# Altium footprint library SOIC.PcbLib: 46 footprints (part 2 of 3)
Each footprint in its own frame and in the unit in brackets; x right, y up, seen from the top. Pads: shape width x height; smd on the part's side, far side on the other; paste and mask are expansions set on the pad; w line width, h text height; cw(c..) or ccw(c..) is an arc to the next point about the centre after c.
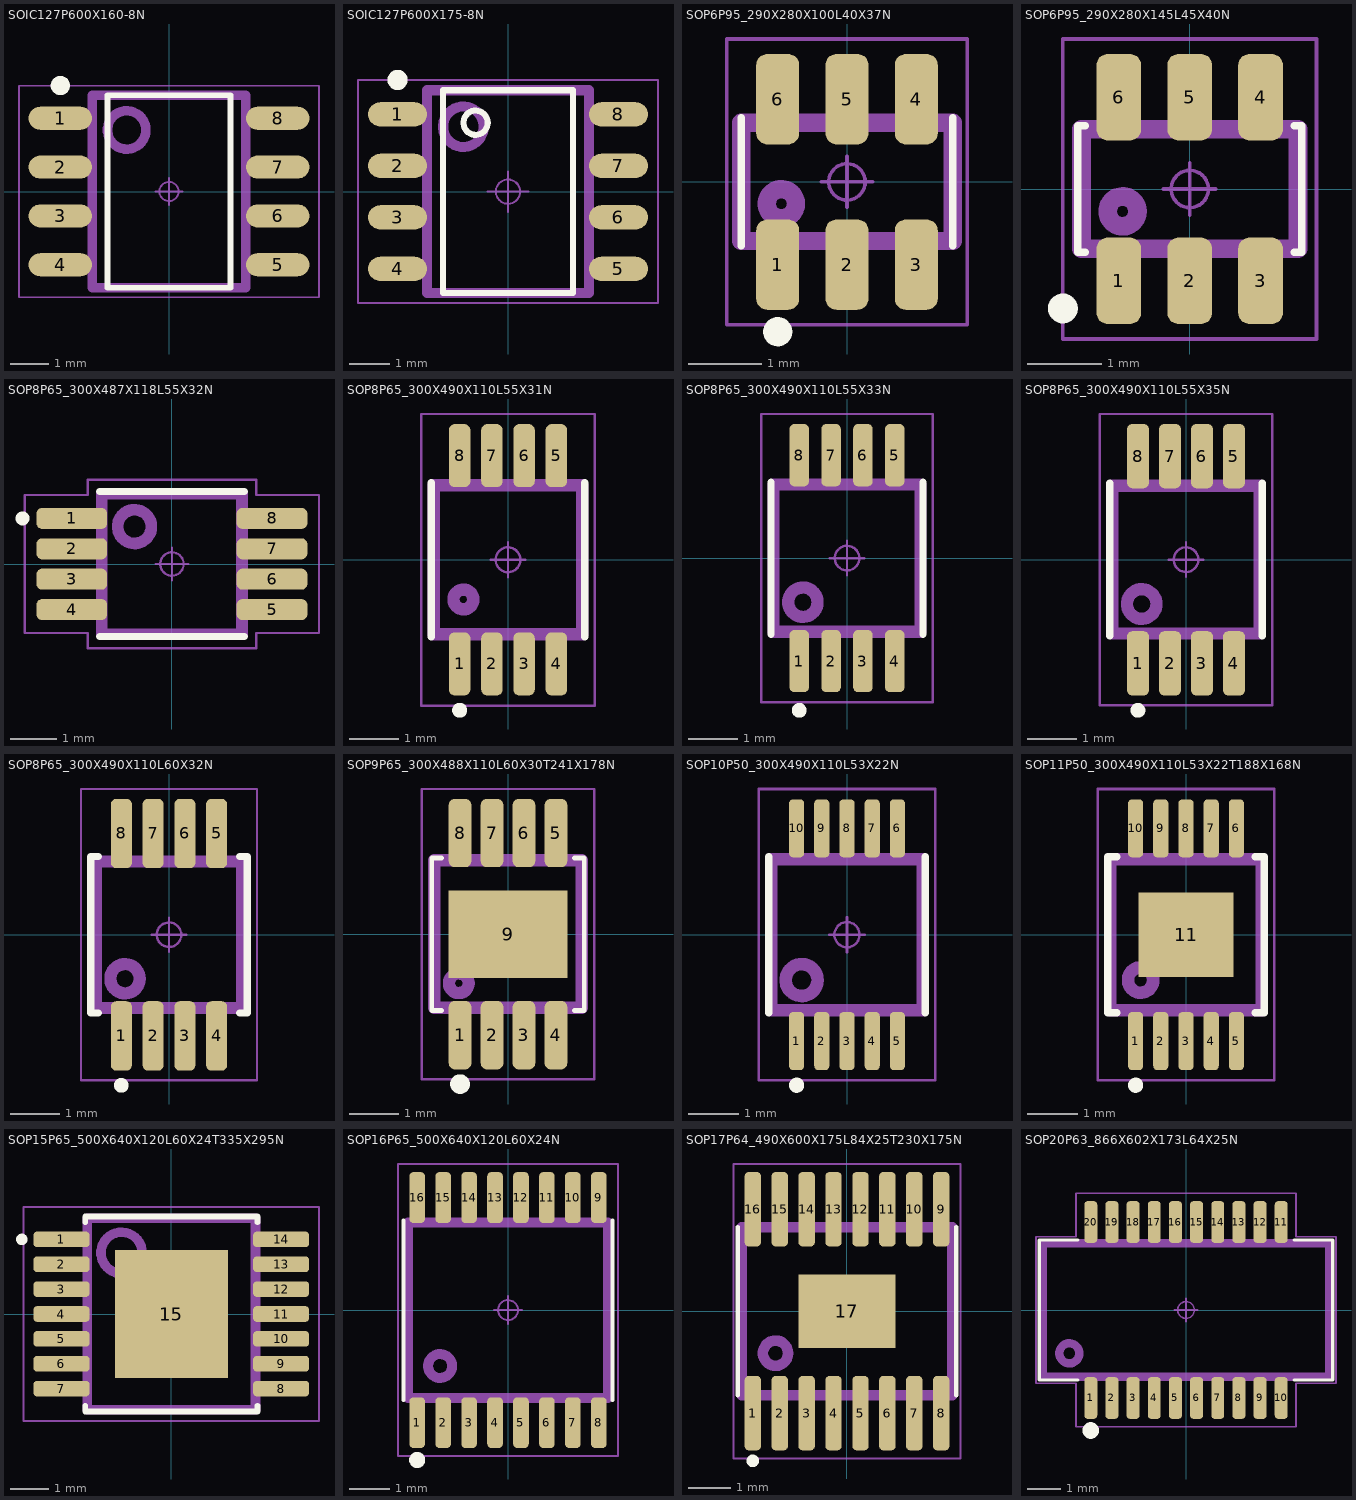
[diagram p1: the footprints below, top view; thin cyan lines are the x and y axes]

## SOIC127P600X160-8N [mm] "SOIC, 8-Leads, Body 4.90x3.90mm, Pitch 1.27mm, IPC Medium Density"
height 1.6
pads (8):
  oval 1.65x0.6 smd: 1(-2.825,1.905) 2(-2.825,0.635) 3(-2.825,-0.635) 4(-2.825,-1.905) 5(2.825,-1.905) 6(2.825,-0.635) 7(2.825,0.635) 8(2.825,1.905)
Top Overlay:
  circle w0.25: c-2.825,2.755 r0.125
  lines w0.15: -1.6,-2.5 -1.6,2.5 1.6,2.5 1.6,-2.5 -1.6,-2.5
Top Assembly:
  circle w0.25: c-1.1,1.6 r0.5
  lines w0.25: -2,-2.5 -2,2.5 2,2.5 2,-2.5 -2,-2.5
  text ".Designator" at -3.378,-0.339 h1.5
Top Courtyard:
  circle w0.05: c0,0 r0.25
  lines w0.05: -0.35,0 0.35,0 ; 0,-0.35 0,0.35 ; -3.9,-2.75 -3.9,2.75 3.9,2.75 3.9,-2.75 -3.9,-2.75
3D body "SOIC127P600X160-8N.step": height 1.6, standoff 0, extent -3,-2.5 3,2.5

## SOIC127P600X175-8N [mm] "SOIC, 8-Leads, Body 4,90x3,90mm, Pitch 1,27mm, IPC Medium Density"
height 1.75
pads (8):
  oval 1.45x0.6 smd: 1(-2.725,1.905) 2(-2.725,0.635) 3(-2.725,-0.635) 4(-2.725,-1.905) 5(2.725,-1.905) 6(2.725,-0.635) 7(2.725,0.635) 8(2.725,1.905)
Top Overlay:
  circle w0.25: c-2.725,2.755 r0.125
  circle w0.15: c-0.8,1.7 r0.3
  lines w0.15: -1.6,-2.5 -1.6,2.5 1.6,2.5 1.6,-2.5 -1.6,-2.5
Top Assembly:
  circle w0.25: c-1.1,1.6 r0.5
  lines w0.25: -2,-2.5 -2,2.5 2,2.5 2,-2.5 -2,-2.5
  text ".Designator" at -1.6,-0.4 h1.5
Top Courtyard:
  circle w0.05: c0,0 r0.3
  lines w0.05: -0.5,0 0.5,0 ; 0,-0.5 0,0.5 ; -3.7,-2.75 -3.7,2.75 3.7,2.75 3.7,-2.75 -3.7,-2.75
3D body "SOIC127P600X175-8N.step": height 1.75, standoff 0, extent -3,-2.5 3,2.5

## SOP6P95_290X280X100L40X37N [mm] "Small Outline Pkg (SOP), 0.95 mm pitch; 6 pin, 2.90 mm L X 1.625 mm W X 1.00 mm H body"
height 1
pads (6):
  rrect51% 0.59x1.24 smd: 1(-0.95,-1.135) 2(0,-1.135) 3(0.95,-1.135) 4(0.95,1.135) 5(0,1.135) 6(-0.95,1.135)
Top Overlay:
  circle w0.2: c-0.95,-2.055 r0.1
  lines w0.1: -1.45,-0.88 -1.45,0.88 ; 1.45,-0.88 1.45,0.88
Top Assembly:
  circle w0.25: c-0.9,-0.3 r0.2
  lines w0.25: -1.45,-0.81 1.45,-0.81 1.45,0.81 -1.45,0.81 -1.45,-0.81
  text ".Designator" at -2.2,1.3 h1.5
Top Courtyard:
  circle w0.05: c0,0 r0.25
  lines w0.05: -0.35,0 0.35,0 ; 0,-0.35 0,0.35 ; -1.65,-1.96 1.65,-1.96 1.65,1.96 -1.65,1.96 -1.65,-1.96
3D body "SOP6P95_290X280X100L40X37.STEP": height 1, standoff 0, extent -1.45,-1.4 1.45,1.4

## SOP6P95_290X280X145L45X40N [mm] "Small Outline Pkg (SOP), 0.95 mm pitch; 6 pin, 2.90 mm L X 1.60 mm W X 1.45 mm H body"
height 1.45
pads (6):
  rrect50% 0.6x1.16 smd: 1(-0.95,-1.23) 2(0,-1.23) 3(0.95,-1.23) 4(0.95,1.23) 5(0,1.23) 6(-0.95,1.23)
Top Overlay:
  circle w0.2: c-1.7,-1.6 r0.1
  lines w0.1: -1.4,-0.85 -1.5,-0.85 -1.5,0.85 -1.4,0.85 ; 1.4,-0.85 1.5,-0.85 1.5,0.85 1.4,0.85
Top Assembly:
  circle w0.25: c-0.9,-0.3 r0.2
  lines w0.25: -1.45,-0.8 1.45,-0.8 1.45,0.8 -1.45,0.8 -1.45,-0.8
  text ".Designator" at -2.4,1.3 h1.5
Top Courtyard:
  circle w0.05: c0,0 r0.25
  lines w0.05: -0.35,0 0.35,0 ; 0,-0.35 0,0.35 ; -1.7,-2.01 1.7,-2.01 1.7,2.01 -1.7,2.01 -1.7,-2.01
3D body "SOP6P95_290X280X145L45X40.STEP": height 1.45, standoff 0, extent -1.45,-1.4 1.45,1.4

## SOP8P65_300X487X118L55X32N [mm] "Small Outline Pkg (SOP), 0.65 mm pitch; 8 pin, 3.00 mm L X 3.00 mm W X 1.18 mm H body"
height 1.18
pads (8):
  rrect52% 1.51x0.45 smd: 1(-2.14,0.975) 2(-2.14,0.325) 3(-2.14,-0.325) 4(-2.14,-0.975) 5(2.14,-0.975) 6(2.14,-0.325) 7(2.14,0.325) 8(2.14,0.975)
Top Overlay:
  circle w0.15: c-3.195,0.975 r0.075
  lines w0.15: -1.55,-1.55 1.55,-1.55 ; -1.55,1.55 1.55,1.55
Top Assembly:
  circle w0.25: c-0.8,0.8 r0.361
  lines w0.25: -1.5,-1.5 -1.5,1.5 1.5,1.5 1.5,-1.5 -1.5,-1.5
  text ".Designator" at -3.378,-0.339 h1.5
Top Courtyard:
  circle w0.05: c0,0 r0.25
  lines w0.05: -0.35,0 0.35,0 ; 0,-0.35 0,0.35 ; -3.145,-1.475 -3.145,1.475 -1.8,1.475 -1.8,1.8 1.8,1.8 1.8,1.475 3.145,1.475 3.145,-1.475 1.8,-1.475 1.8,-1.8 -1.8,-1.8 -1.8,-1.475 -3.145,-1.475
3D body "SOP8P65_300X487X118L55X32.STEP": height 1.18, standoff 0, extent -2.438,-1.5 2.438,1.5

## SOP8P65_300X490X110L55X31N [mm] "Small Outline Pkg (SOP), 0.65 mm pitch; 8 pin, 3.00 mm L X 3.00 mm W X 1.10 mm H body"
height 1.1
pads (8):
  rrect52% 0.43x1.27 smd: 1(-0.975,-2.1) 2(-0.325,-2.1) 3(0.325,-2.1) 4(0.975,-2.1) 5(0.975,2.1) 6(0.325,2.1) 7(-0.325,2.1) 8(-0.975,2.1)
Top Overlay:
  circle w0.15: c-0.975,-3.035 r0.075
  lines w0.15: -1.55,-1.55 -1.55,1.55 ; 1.55,-1.55 1.55,1.55
Top Assembly:
  circle w0.25: c-0.9,-0.8 r0.2
  lines w0.25: -1.5,-1.5 -1.5,1.5 1.5,1.5 1.5,-1.5 -1.5,-1.5
  text ".Designator" at -1.3,-0.3 h1.2
Top Courtyard:
  circle w0.05: c0,0 r0.25
  lines w0.05: -0.35,0 0.35,0 ; 0,-0.35 0,0.35 ; -1.75,-2.94 -1.75,2.94 1.75,2.94 1.75,-2.94 -1.75,-2.94
3D body "SOP8P65_300X490X110L55X31.STEP": height 1.1, standoff 0, extent -1.5,-2.45 1.5,2.45

## SOP8P65_300X490X110L55X33N [mm] "Small Outline Pkg (SOP), 0.65 mm pitch; 8 pin, 3.00 mm L X 3.00 mm W X 1.10 mm H body"
height 1.1
pads (8):
  rrect51% 0.4x1.27 smd: 1(-0.975,-2.1) 2(-0.325,-2.1) 3(0.325,-2.1) 4(0.975,-2.1) 5(0.975,2.1) 6(0.325,2.1) 7(-0.325,2.1) 8(-0.975,2.1)
Top Overlay:
  circle w0.15: c-0.975,-3.105 r0.075
  lines w0.15: -1.55,-1.55 -1.55,1.55 ; 1.55,-1.55 1.55,1.55
Top Assembly:
  circle w0.25: c-0.9,-0.9 r0.3
  lines w0.25: -1.5,-1.5 1.5,-1.5 1.5,1.5 -1.5,1.5 -1.5,-1.5
  text ".Designator" at -3.378,-0.339 h1.5
Top Courtyard:
  circle w0.05: c0,0 r0.25
  lines w0.05: -0.35,0 0.35,0 ; 0,-0.35 0,0.35 ; -1.75,-2.94 1.75,-2.94 1.75,2.94 -1.75,2.94 -1.75,-2.94
3D body "SOP8P65_300X490X110L55X33.STEP": height 1.1, standoff 0, extent -1.5,-2.45 1.5,2.45

## SOP8P65_300X490X110L55X35N [mm] "Small Outline Pkg (SOP), 0.65 mm pitch; 8 pin, 3.00 mm L X 3.00 mm W X 1.10 mm H body"
height 1.1
pads (8):
  rrect52% 0.45x1.31 smd: 1(-0.975,-2.105) 2(-0.325,-2.105) 3(0.325,-2.105) 4(0.975,-2.105) 5(0.975,2.105) 6(0.325,2.105) 7(-0.325,2.105) 8(-0.975,2.105)
Top Overlay:
  circle w0.15: c-0.975,-3.06 r0.075
  lines w0.15: -1.55,-1.55 -1.55,1.55 ; 1.55,-1.55 1.55,1.55
Top Assembly:
  circle w0.25: c-0.9,-0.9 r0.3
  lines w0.25: -1.5,-1.5 -1.5,1.5 1.5,1.5 1.5,-1.5 -1.5,-1.5
  text ".Designator" at -3.378,-0.339 h1.5
Top Courtyard:
  circle w0.05: c0,0 r0.25
  lines w0.05: -0.35,0 0.35,0 ; 0,-0.35 0,0.35 ; -1.75,-2.96 -1.75,2.96 1.75,2.96 1.75,-2.96 -1.75,-2.96
3D body "SOP8P65_300X490X110L55X35.STEP": height 1.1, standoff 0, extent -1.5,-2.45 1.5,2.45

## SOP8P65_300X490X110L60X32N [mm] "Small Outline Pkg (SOP), 0.65 mm pitch; 8 pin, 3.00 mm L X 3.00 mm W X 1.10 mm H body"
height 1.1
pads (8):
  rrect50% 0.43x1.42 smd: 1(-0.975,-2.07) 2(-0.325,-2.07) 3(0.325,-2.07) 4(0.975,-2.07) 5(0.975,2.07) 6(0.325,2.07) 7(-0.325,2.07) 8(-0.975,2.07)
Top Overlay:
  circle w0.15: c-0.975,-3.08 r0.075
  lines w0.15: -1.45,-1.6 -1.6,-1.6 -1.6,1.6 -1.45,1.6 ; 1.45,-1.6 1.6,-1.6 1.6,1.6 1.45,1.6
Top Assembly:
  circle w0.25: c-0.9,-0.9 r0.3
  lines w0.25: -1.5,-1.5 1.5,-1.5 1.5,1.5 -1.5,1.5 -1.5,-1.5
  text ".Designator" at -3.378,-0.339 h1.5
Top Courtyard:
  circle w0.05: c0,0 r0.25
  lines w0.05: -0.35,0 0.35,0 ; 0,-0.35 0,0.35 ; -1.8,-2.98 1.8,-2.98 1.8,2.98 -1.8,2.98 -1.8,-2.98
3D body "SOP8P65_300X490X110L60X32.STEP": height 1.1, standoff 0, extent -1.5,-2.45 1.5,2.45

## SOP9P65_300X488X110L60X30T241X178N [mm] "Small Outline Pkg (SOP with Tab), 0.65 mm pitch; 8 pin, 3.00 mm L X 3.00 mm W X 1.10 mm H body"
height 1.1
pads (9):
  rrect52% 0.46x1.39 smd: 1(-0.975,-2.055) 2(-0.325,-2.055) 3(0.325,-2.055) 4(0.975,-2.055) 5(0.975,2.055) 6(0.325,2.055) 7(-0.325,2.055) 8(-0.975,2.055)
  rect 2.41x1.78 smd paste-2.41: 9(0,0)
Top Overlay:
  circle w0.2: c-0.975,-3.05 r0.1
  lines w0.1: -1.355,-1.55 -1.55,-1.55 -1.55,1.55 -1.355,1.55 ; 1.355,-1.55 1.55,-1.55 1.55,1.55 1.355,1.55
Top Paste:
  region: 1.01,-0.69 0.1,-0.69 0.1,-0.1 1.01,-0.1
  region: 1.01,0.1 0.1,0.1 0.1,0.69 1.01,0.69
  region: -0.1,-0.69 -1.01,-0.69 -1.01,-0.1 -0.1,-0.1
  region: -0.1,0.1 -1.01,0.1 -1.01,0.69 -0.1,0.69
Top Assembly:
  circle w0.25: c-1,-1 r0.2
  lines w0.25: -1.5,-1.5 -1.5,1.5 1.5,1.5 1.5,-1.5 -1.5,-1.5
  text ".Designator" at -1.3,-0.3 h1.5
Top Courtyard:
  circle w0.05: c0,0 r0.25
  lines w0.05: -0.35,0 0.35,0 ; 0,-0.35 0,0.35 ; -1.75,-2.95 -1.75,2.95 1.75,2.95 1.75,-2.95 -1.75,-2.95
3D body "SOP9P65_300X488X110L60X30T241X178.STEP": height 1.1, standoff 0, extent -1.5,-2.44 1.5,2.44

## SOP10P50_300X490X110L53X22N [mm] "Small Outline Pkg (SOP), 0.50 mm pitch; 10 pin, 3.00 mm L X 3.00 mm W X 1.10 mm H body"
height 1.1
pads (10):
  rrect53% 0.3x1.15 smd: 1(-1,-2.11) 2(-0.5,-2.11) 3(0,-2.11) 4(0.5,-2.11) 5(1,-2.11) 6(1,2.11) 7(0.5,2.11) 8(0,2.11) 9(-0.5,2.11) 10(-1,2.11)
Top Overlay:
  circle w0.15: c-1,-2.985 r0.075
  lines w0.15: -1.55,-1.55 -1.55,1.55 ; 1.55,-1.55 1.55,1.55
Top Assembly:
  circle w0.25: c-0.9,-0.9 r0.316
  lines w0.25: -1.5,-1.5 1.5,-1.5 1.5,1.5 -1.5,1.5 -1.5,-1.5
  text ".Designator" at -3.378,-0.339 h1.5
Top Courtyard:
  circle w0.05: c0,0 r0.25
  lines w0.05: -0.35,0 0.35,0 ; 0,-0.35 0,0.35 ; -1.75,-2.89 1.75,-2.89 1.75,2.89 -1.75,2.89 -1.75,-2.89
3D body "SOP10P50_300X490X110L53X22.STEP": height 1.1, standoff 0, extent -1.5,-2.45 1.5,2.45

## SOP11P50_300X490X110L53X22T188X168N [mm] "Small Outline Pkg (SOP with Tab), 0.50 mm pitch; 10 pin, 3.00 mm L X 3.00 mm W X 1.10 mm H body"
height 1.1
pads (11):
  rrect53% 0.3x1.15 smd: 1(-1,-2.11) 2(-0.5,-2.11) 3(0,-2.11) 4(0.5,-2.11) 5(1,-2.11) 6(1,2.11) 7(0.5,2.11) 8(0,2.11) 9(-0.5,2.11) 10(-1,2.11)
  rect 1.88x1.68 smd paste-1.88: 11(0,0)
Top Overlay:
  circle w0.15: c-1,-2.985 r0.075
  lines w0.15: -1.375,-1.55 -1.55,-1.55 -1.55,1.55 -1.375,1.55 ; 1.375,-1.55 1.55,-1.55 1.55,1.55 1.375,1.55
Top Paste:
  region: 0.815,-0.715 0.125,-0.715 0.125,-0.125 0.815,-0.125
  region: 0.815,0.125 0.125,0.125 0.125,0.715 0.815,0.715
  region: -0.125,-0.715 -0.815,-0.715 -0.815,-0.125 -0.125,-0.125
  region: -0.125,0.125 -0.815,0.125 -0.815,0.715 -0.125,0.715
Top Assembly:
  circle w0.25: c-0.9,-0.9 r0.25
  lines w0.25: -1.5,-1.5 -1.5,1.5 1.5,1.5 1.5,-1.5 -1.5,-1.5
  text ".Designator" at -3.378,-0.339 h1.5
Top Courtyard:
  circle w0.05: c0,0 r0.25
  lines w0.05: -0.35,0 0.35,0 ; 0,-0.35 0,0.35 ; -1.75,-2.89 -1.75,2.89 1.75,2.89 1.75,-2.89 -1.75,-2.89
3D body "SOP11P50_300X490X110L53X22T188X168.STEP": height 1.1, standoff 0, extent -1.5,-2.45 1.5,2.45

## SOP15P65_500X640X120L60X24T335X295N [mm] "Small Outline Pkg (SOP with Tab), 0.65 mm pitch; 14 pin, 5.00 mm L X 4.40 mm W X 1.20 mm H body"
height 1.2
pads (15):
  rrect49% 1.47x0.41 smd: 1(-2.87,1.95) 2(-2.87,1.3) 3(-2.87,0.65) 4(-2.87,0) 5(-2.87,-0.65) 6(-2.87,-1.3) 7(-2.87,-1.95) 8(2.87,-1.95) 9(2.87,-1.3) 10(2.87,-0.65) 11(2.87,0) 12(2.87,0.65) 13(2.87,1.3) 14(2.87,1.95)
  rect 2.955x3.355 smd paste-3.355: 15(0,0)
Top Overlay:
  circle w0.15: c-3.905,1.95 r0.075
  lines w0.15: -2.25,-2.4 -2.25,-2.55 2.25,-2.55 2.25,-2.4 ; -2.25,2.4 -2.25,2.55 2.25,2.55 2.25,2.4
Top Paste:
  region: 0.215,0.215 0.215,1.455 1.255,1.455 1.255,0.215
  region: -1.255,0.215 -1.255,1.455 -0.215,1.455 -0.215,0.215
  region: 0.215,-1.455 0.215,-0.215 1.255,-0.215 1.255,-1.455
  region: -1.255,-1.455 -1.255,-0.215 -0.215,-0.215 -0.215,-1.455
Top Assembly:
  circle w0.25: c-1.3,1.6 r0.539
  lines w0.25: -2.2,-2.5 2.2,-2.5 2.2,2.5 -2.2,2.5 -2.2,-2.5
  text ".Designator" at -3.378,-0.339 h1.5
Top Courtyard:
  circle w0.05: c0,0 r0.25
  lines w0.05: -0.35,0 0.35,0 ; 0,-0.35 0,0.35 ; -3.86,-2.8 3.86,-2.8 3.86,2.8 -3.86,2.8 -3.86,-2.8
3D body "SOP15P65_500X640X120L60X24T335X295.STEP": height 1.2, standoff 0, extent -3.2,-2.5 3.2,2.5

## SOP16P65_500X640X120L60X24N [mm] "Small Outline Pkg (SOP), 0.65 mm pitch; 16 pin, 5.00 mm L X 4.40 mm W X 1.20 mm H body"
height 1.2
pads (16):
  rrect51% 0.39x1.27 smd: 1(-2.275,-2.82) 2(-1.625,-2.82) 3(-0.975,-2.82) 4(-0.325,-2.82) 5(0.325,-2.82) 6(0.975,-2.82) 7(1.625,-2.82) 8(2.275,-2.82) 9(2.275,2.82) 10(1.625,2.82) 11(0.975,2.82) 12(0.325,2.82) 13(-0.325,2.82) 14(-0.975,2.82) 15(-1.625,2.82) 16(-2.275,2.82)
Top Overlay:
  circle w0.2: c-2.275,-3.755 r0.1
  lines w0.1: -2.62,-2.25 -2.62,2.25 ; 2.62,-2.25 2.62,2.25
Top Assembly:
  circle w0.25: c-1.7,-1.4 r0.3
  lines w0.25: -2.5,-2.2 2.5,-2.2 2.5,2.2 -2.5,2.2 -2.5,-2.2
  text ".Designator" at -2.2,-0.3 h1.5
Top Courtyard:
  circle w0.05: c0,0 r0.25
  lines w0.05: -0.35,0 0.35,0 ; 0,-0.35 0,0.35 ; -2.75,-3.66 2.75,-3.66 2.75,3.66 -2.75,3.66 -2.75,-3.66
3D body "SOP16P65_500X640X120L60X24.STEP": height 1.2, standoff 0, extent -2.5,-3.2 2.5,3.2

## SOP17P64_490X600X175L84X25T230X175N [mm] "Small Outline Pkg (SOP with Tab), 0.64 mm pitch; 16 pin, 4.90 mm L X 3.90 mm W X 1.75 mm H body"
height 1.75
pads (17):
  rrect51% 0.39x1.77 smd: 1(-2.24,-2.425) 2(-1.6,-2.425) 3(-0.96,-2.425) 4(-0.32,-2.425) 5(0.32,-2.425) 6(0.96,-2.425) 7(1.6,-2.425) 8(2.24,-2.425) 9(2.24,2.425) 10(1.6,2.425) 11(0.96,2.425) 12(0.32,2.425) 13(-0.32,2.425) 14(-0.96,2.425) 15(-1.6,2.425) 16(-2.24,2.425)
  rect 2.3x1.75 smd paste-2.3: 17(0,0)
Top Overlay:
  circle w0.15: c-2.24,-3.56 r0.075
  lines w0.1: -2.6,-2 -2.6,2 ; 2.6,-2 2.6,2
Top Paste:
  region: -0.145,0.145 -1.005,0.145 -1.005,0.735 -0.145,0.735
  region: -0.145,-0.735 -1.005,-0.735 -1.005,-0.145 -0.145,-0.145
  region: 1.005,0.145 0.145,0.145 0.145,0.735 1.005,0.735
  region: 1.005,-0.735 0.145,-0.735 0.145,-0.145 1.005,-0.145
Top Assembly:
  circle w0.25: c-1.7,-1 r0.3
  lines w0.25: -2.5,-2 2.5,-2 2.5,2 -2.5,2 -2.5,-2
  text ".Designator" at -2.2,-0.2 h1.5
Top Courtyard:
  circle w0.05: c0,0 r0.25
  lines w0.05: -0.35,0 0.35,0 ; 0,-0.35 0,0.35 ; -2.7,-3.5 2.7,-3.5 2.7,3.5 -2.7,3.5 -2.7,-3.5
3D body "SOP17P64_490X600X175L84X25T230X175.STEP": height 1.75, standoff 0, extent -2.45,-3 2.45,3

## SOP20P63_866X602X173L64X25N [mm] "Small Outline Pkg (SOP), 0.635 mm pitch; 20 pin, 8.66 mm L X 3.91 mm W X 1.73 mm H body"
height 1.73
pads (20):
  rrect51% 0.39x1.25 smd: 1(-2.857,-2.64) 2(-2.222,-2.64) 3(-1.587,-2.64) 4(-0.953,-2.64) 5(-0.318,-2.64) 6(0.318,-2.64) 7(0.953,-2.64) 8(1.587,-2.64) 9(2.222,-2.64) 10(2.857,-2.64) 11(2.857,2.64) 12(2.222,2.64) 13(1.587,2.64) 14(0.953,2.64) 15(0.318,2.64) 16(-0.318,2.64) 17(-0.953,2.64) 18(-1.587,2.64) 19(-2.222,2.64) 20(-2.857,2.64)
Top Overlay:
  circle w0.25: c-2.857,-3.615 r0.125
  lines w0.1: -3.25,-2.1 -4.4,-2.1 -4.4,2.1 -3.25,2.1 ; 3.25,-2.1 4.4,-2.1 4.4,2.1 3.25,2.1
Top Assembly:
  circle w0.25: c-3.5,-1.3 r0.3
  lines w0.25: -4.3,-2 -4.3,2 4.3,2 4.3,-2 -4.3,-2
  text ".Designator" at -2.7,-0.3 h1.5
Top Courtyard:
  circle w0.05: c0,0 r0.25
  lines w0.05: -0.35,0 0.35,0 ; 0,-0.35 0,0.35 ; -4.5,-2.2 -4.5,2.2 -3.3,2.2 -3.3,3.5 3.3,3.5 3.3,2.2 4.5,2.2 4.5,-2.2 3.3,-2.2 3.3,-3.5 -3.3,-3.5 -3.3,-2.2 -4.5,-2.2
3D body "SOP20P63_866X602X173L64X25.STEP": height 1.73, standoff 0, extent -4.33,-3.01 4.33,3.01